# Altium footprint library USBA1VSB6.PcbLib: 1 footprints
Each footprint in its own frame and in the unit in brackets; x right, y up, seen from the top. Pads: shape width x height; smd on the part's side, far side on the other; paste and mask are expansions set on the pad; w line width, h text height; cw(c..) or ccw(c..) is an arc to the next point about the centre after c.
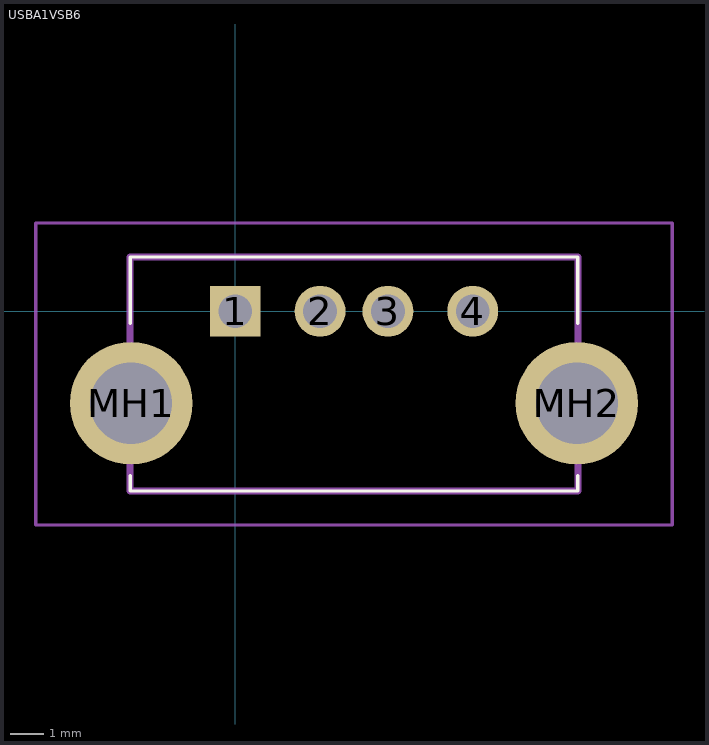
[diagram p0: the footprint, top view; thin cyan lines are the x and y axes]

## USBA1VSB6 [mm]
pads (6):
  rect 1.5x1.5 hole 1: 1(0,0)
  round 1.5 hole 1: 2(2.5,0) 3(4.5,0) 4(7,0)
  round 3.615 hole 2.41: MH1(-3.07,-2.71) MH2(10.07,-2.71)
Top Overlay:
  lines w0.1: -3.1,-4.85 -3.1,-5.3 10.1,-5.3 10.1,-4.85 ; -3.1,-0.35 -3.1,1.6 10.07,1.6 10.1,1.6 10.1,-0.35
Mechanical 15:
  lines w0.2: -3.1,-5.3 10.1,-5.3 10.1,1.6 -3.1,1.6 -3.1,-5.3
Mechanical 20:
  lines w0.1: -5.878,-6.3 12.878,-6.3 12.878,2.6 -5.878,2.6 -5.878,-6.3